# EAGLE library part V6_DAUGHTERCONNECTER (library 000_CustomPartsMaster)
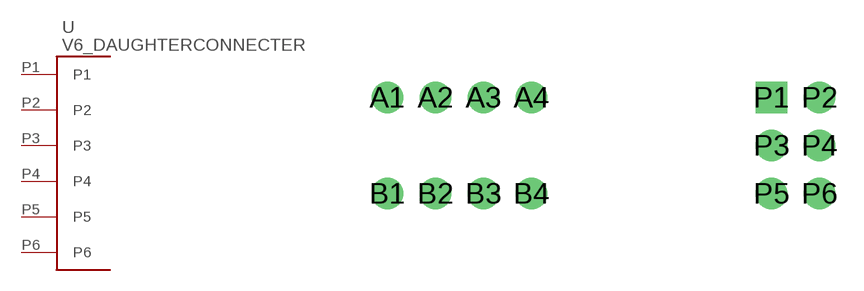
[diagram p23: symbol with the pads of V6_DAUGHTERBOARDCONNECTOR; footprint V6_DAUGHTERBOARDCONNECTOR]

Designator prefix -

## V6_DAUGHTERCONNECTER  [V6_DAUGHTERBOARDCONNECTOR]
P1  P1
P2  P2
P3  P3
P4  P4
P5  P5
P6  P6

## Footprint V6_DAUGHTERBOARDCONNECTOR (pad centres in mm)
drill 1.1: A1 -20.32,2.54; A2 -17.78,2.54; A3 -15.24,2.54; A4 -12.7,2.54; B1 -20.32,-2.54; B2 -17.78,-2.54; B3 -15.24,-2.54; B4 -12.7,-2.54; P2 2.54,2.54; P3 0,0; P4 2.54,0; P5 0,-2.54; P6 2.54,-2.54
drill 1.1 square: P1 0,2.54